# EAGLE library part STF202-22T1G (library STF202-22T1G)
USB Filter with ESD Protection Source: Datasheet <http://www.onsemi.com/pub/Collateral/STF202-22T1-D.PDF>
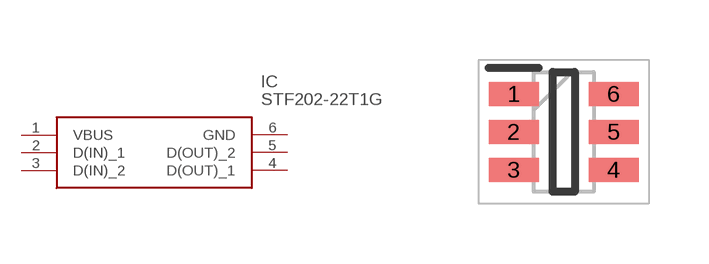
[diagram p0: symbol with the pads of SOT95P275X110-6N; footprint SOT95P275X110-6N]

Designator prefix IC

## STF202-22T1G (Arrow_Part_Number: STF202-22T1G; Arrow_Price-Stock: https://www.arrow.com/en/products/stf202-22t1g/on-semiconductor?region=nac; Description: USB Filter with ESD Protection; Height: 1.1mm; Manufacturer_Name: onsemi; Manufacturer_Part_Number: STF202-22T1G; Mouser_Part_Number: 863-STF202-22T1G; Mouser_Price-Stock: https://www.mouser.co.uk/ProductDetail/onsemi/STF202-22T1G?qs=xZq1yRCsb1dM1UQ1NtNRtw%3D%3D)  [SOT95P275X110-6N]
1  VBUS
2  D(IN)_1
3  D(IN)_2
4  D(OUT)_1
5  D(OUT)_2
6  GND

## Footprint SOT95P275X110-6N (pad centres in mm)
TSOP-6 CASE318G-02 ISSUE V
smd 1.25 x 0.6: 1 -1.25,0.95; 2 -1.25,0; 3 -1.25,-0.95; 4 1.25,-0.95; 5 1.25,0; 6 1.25,0.95